# Altium footprint library Lib1.PcbLib: 32 footprints (part 2 of 2)
Each footprint in its own frame and in the unit in brackets; x right, y up, seen from the top. Pads: shape width x height; smd on the part's side, far side on the other; paste and mask are expansions set on the pad; w line width, h text height; cw(c..) or ccw(c..) is an arc to the next point about the centre after c.
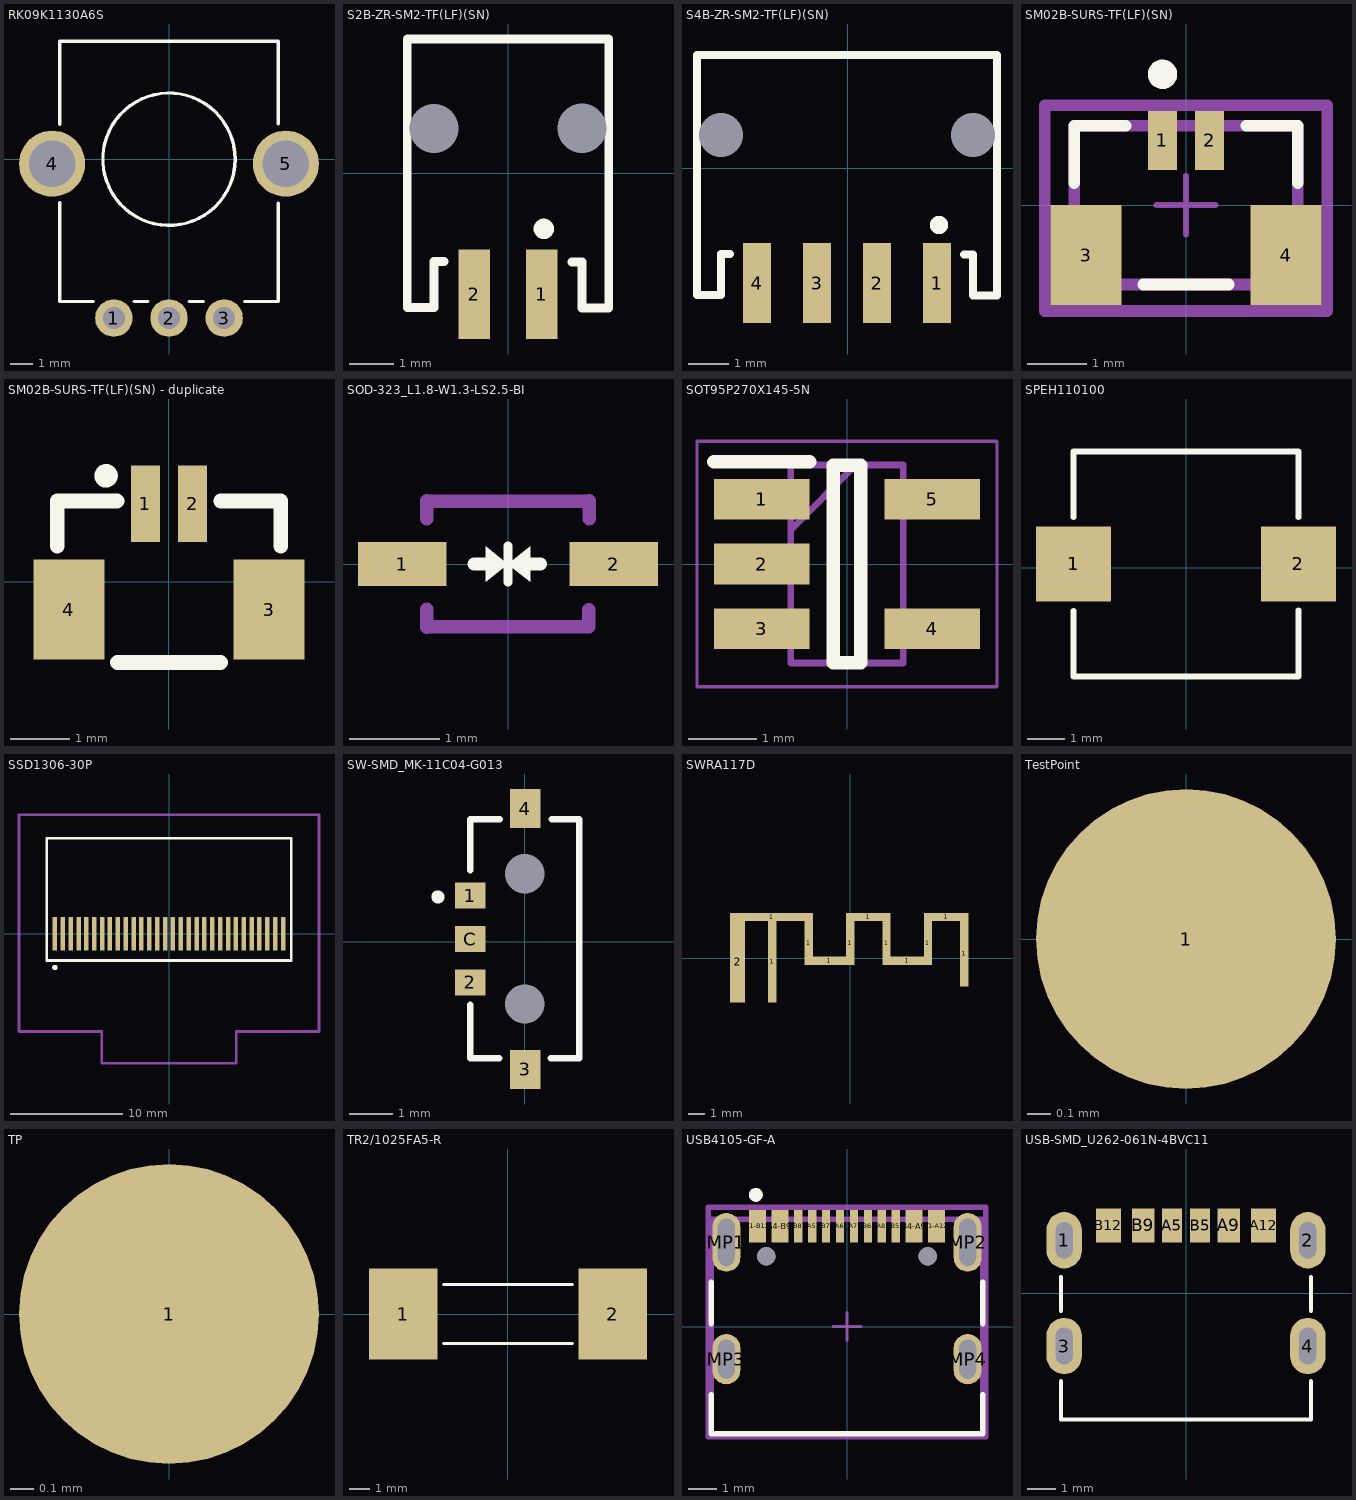
[diagram p1: the footprints below, top view; thin cyan lines are the x and y axes]

## RK09K1130A6S [mm]
pads (5):
  round 1.7 hole 1: 1(-2.5,-7.2) 2(0,-7.2) 3(2.5,-7.2)
  round 3 hole 2.1: 4(-5.3,-0.2) 5(5.3,-0.2)
Top Overlay:
  circle w0.15: c0,0 r3
  lines w0.15: -4.95,-1.975 -4.95,-6.452 -3.425,-6.45 ; -4.95,1.575 -4.95,5.35 4.95,5.35 4.95,1.6 ; -1.575,-6.45 -0.95,-6.45 ; 0.925,-6.45 1.55,-6.45 ; 3.425,-6.45 4.95,-6.452 4.95,-2
3D body "RK09K1130A6S-3D.step": height 15, standoff -3.8, extent -5.349,-7.31 5.329,5.29

## S2B-ZR-SM2-TF(LF)(SN) [mm]
pads (4):
  rect 0.7x2 smd: 1(0.75,-2.7) 2(-0.75,-2.7)
  round 0 hole 1.1 unplated: ""(-1.65,1) ""(1.65,1.008)
Top Overlay:
  lines w0.2: -1.652,-2.998 -1.652,-1.973 -1.427,-1.973 ; -1.65,-3 -2.25,-3 -2.25,3 2.25,3 ; 1.427,-1.981 1.652,-1.981 1.652,-3.006 ; 1.65,-3.008 2.25,-3.008 2.25,2.992
  lines w0.254: 0.7,-1.241 cw(c0.8,-1.241) 0.8,-1.141 cw(c0.8,-1.241) 0.9,-1.241 cw(c0.8,-1.241) 0.8,-1.341 cw(c0.8,-1.241) 0.7,-1.241
3D body "S2B-ZR-SM2-TF(LF)(SN).step": height 3.7, standoff -1.5, extent -2.25,-3.5 2.25,3

## S4B-ZR-SM2-TF(LF)(SN) [mm]
pads (6):
  rect 0.7x2 smd: 1(2.237,-2.863) 2(0.737,-2.863) 3(-0.763,-2.863) 4(-2.263,-2.863)
  round 0 hole 1.1 unplated: ""(-3.163,0.837) ""(3.137,0.837)
Top Overlay:
  lines w0.2: -2.94,-2.136 -3.165,-2.136 -3.165,-3.161 -3.163,-3.163 -3.763,-3.163 -3.763,2.837 3.737,2.837 ; 2.914,-2.153 3.139,-2.153 3.139,-3.178 ; 3.137,-3.18 3.737,-3.18 3.737,2.82
  lines w0.254: 2.187,-1.413 cw(c2.287,-1.413) 2.287,-1.313 cw(c2.287,-1.413) 2.387,-1.413 cw(c2.287,-1.413) 2.287,-1.513 cw(c2.287,-1.413) 2.187,-1.413
3D body "S4B-ZR-SM2-TF(LF)(SN).step": height 3.7, standoff -1.5, extent -3.763,-3.663 3.737,2.837

## SM02B-SURS-TF(LF)(SN) [mm]
pads (4):
  rect 0.5x1 smd paste+0 mask+0.01: 1(-0.4,1.1) 2(0.4,1.1)
  rect 1.2x1.7 smd paste+0 mask+0.01: 3(-1.7,-0.85) 4(1.7,-0.85)
Top Overlay:
  circle w0.25: c-0.4,2.225 r0.125
  lines w0.2: -1.9,0.375 -1.9,1.35 -1.025,1.35 ; -0.725,-1.35 0.725,-1.35 ; 1.025,1.35 1.9,1.35 1.9,0.375
Top Component Center:
  lines w0.1: -0.5,0 0.5,0 ; 0,-0.5 0,0.5
  lines w0.2: -2.4,-1.8 -2.4,1.7 2.4,1.7 2.4,-1.8 -2.4,-1.8
Top 3D Body:
  lines w0.2: -1.9,-1.35 -1.9,1.35 1.9,1.35 1.9,-1.35 -1.9,-1.35
3D body "Conn_JST_SM02B-SURS-TF_LF_SN_eec.STEP": height 0.25, standoff 0, extent -2.4,-1.8 2.4,1.7

## SM02B-SURS-TF(LF)(SN) - duplicate [mm]
pads (4):
  rect 0.5x1.3 smd paste+0 mask+0.051: 1(-0.4,1.325) 2(0.4,1.325)
  rect 1.2x1.7 smd paste+0 mask+0.051: 3(1.7,-0.474) 4(-1.7,-0.474)
Top Overlay:
  circle w0.2: c-1.07,1.8 r0.1
  lines w0.254: -1.9,0.607 -1.9,1.375 -0.881,1.375 ; -0.874,-1.374 0.874,-1.374 ; 0.879,1.375 1.9,1.375 1.9,0.607
Assembly Notes:
  circle w0.2: c-0.379,1.52 r0.1

## SOD-323_L1.8-W1.3-LS2.5-BI [mm]
pads (2):
  rect 0.985x0.49 smd mask+0.051: 1(-1.175,0) 2(1.175,0)
Top Overlay:
  region: 0.25,0.2 0,0 0.25,-0.2
  region: -0.25,-0.2 0,0 -0.25,0.2
  lines w0.1: 0,-0.2 0,0.2
  lines w0.15: -0.376,0 -0.204,0 ; 0.225,0 0.361,0
Mechanical 13:
  lines w0.15: -0.901,-0.701 -0.901,-0.501 ; -0.901,0.501 -0.901,0.701 ; 0.9,-0.699 0.9,-0.51 ; 0.905,0.501 0.905,0.701 ; -0.9,0.7 0.9,0.7 ; -0.9,0.7 0.9,0.7 ; -0.9,0.7 -0.9,0.7 ; 0.9,0.7 0.9,0.7 ; -0.9,-0.7 0.9,-0.7 -0.9,-0.7
3D body "GBLC08C-N.step": height 1, standoff -0.05, extent -1.3,-0.65 1.3,0.65

## SOT95P270X145-5N [mm]
pads (5):
  rect 1.4x0.6 smd mask+0.051: 1(-1.25,0.95) 2(-1.25,0) 3(-1.25,-0.95) 4(1.25,-0.95) 5(1.25,0.95)
Top Overlay:
  lines w0.2: -1.95,1.5 -0.55,1.5 ; -0.2,-1.45 -0.2,1.45 0.2,1.45 0.2,-1.45 -0.2,-1.45
Mechanical 13:
  lines w0.1: -0.825,0.5 0.125,1.45 ; -0.825,-1.45 -0.825,1.45 0.825,1.45 0.825,-1.45 -0.825,-1.45
Assembly Notes:
  lines w0.05: -2.2,-1.8 -2.2,1.8 2.2,1.8 2.2,-1.8 -2.2,-1.8
3D body "FAN5333BSX.stp": height 1.45, standoff 0, extent -1.35,-1.45 1.35,1.45

## SPEH110100 [mm] "Pushbutton"
pads (2):
  rect 2x2 smd mask+0.051: 1(-3,0.101) 2(3,0.101)
Top Overlay:
  lines w0.15: -3,1.346 -3,3.101 3,3.101 3,1.346 ; -2.999,-1.148 -2.999,-2.899 3.001,-2.899 3.001,-1.135
3D body "SPEH110101.step": height 4.97, standoff -0.03, extent -3.289,-2.879 3.243,3.118

## SSD1306-30P [mm]
pads (30):
  rect 0.4x3 smd mask+0.051: 1(-10.15,0) 2(-9.45,0) 3(-8.75,0) 4(-8.05,0) 5(-7.35,0) 6(-6.65,0) 7(-5.95,0) 8(-5.25,0) 9(-4.55,0) 10(-3.85,0) 11(-3.15,0) 12(-2.45,0) 13(-1.75,0) 14(-1.05,0) 15(-0.35,0) 16(0.35,0) 17(1.05,0) 18(1.75,0) 19(2.45,0) 20(3.15,0) 21(3.85,0) 22(4.55,0) 23(5.25,0) 24(5.95,0) 25(6.65,0) 26(7.35,0) 27(8.05,0) 28(8.75,0) 29(9.45,0) 30(10.15,0)
Top Overlay:
  lines w0.254: -10.039,-2.985 ccw(c-10.15,-3.013) -10.036,-3.003 ; -10.875,-2.379 -10.875,8.479 10.875,8.479 10.875,-2.379 -10.875,-2.379
Assembly Notes:
  lines w0.254: -13.344,-8.692 -13.344,10.571 13.344,10.571 13.344,-8.692 5.98,-8.692 5.98,-11.527 -5.98,-11.527 -5.98,-8.692 -13.344,-8.692
3D body: height 0, standoff 0, extent -10.401,-1.551 10.401,1.551
3D body "SSD1306_OLED.step": height 3, standoff 0.6, extent -13.257,-10.431 13.243,10.568

## SW-SMD_MK-11C04-G013 [mm]
pads (7):
  rect 0.7x0.6 smd mask+0.051: 1(-1.252,1.064) 2(-1.252,-0.936) C(-1.25,0.064)
  rect 0.7x0.9 smd mask+0.051: 3(0.01,-2.936) 4(0.01,3.064)
  round 0 hole 0.9 unplated: ""(0,-1.434) ""(0,1.566)
Top Overlay:
  circle w0.254: c-1.997,1.031 r0.023
  lines w0.15: -1.256,-1.448 -1.256,-2.679 -0.59,-2.679 ; -1.25,1.65 -1.25,2.816 ; -1.245,2.816 -0.579,2.816 ; 0.599,-2.677 1.251,-2.677 1.251,2.823 0.622,2.823
3D body "MK-11C04-G013.step": height 0.7, standoff -0.5, extent -1.462,-3.168 2.538,3.332

## SWRA117D [mm]
pads (12):
  rect 5x0.5 smd paste-1 mask+0: 1(-4.742,2.487)
  rect 0.5x4.9 smd paste-1 mask+0: 1(-4.692,-0.212)
  rect 0.5x2.64 smd paste-1 mask+0: 1(-2.492,0.919) 1(0.006,0.918) 1(2.206,0.918) 1(4.704,0.918)
  rect 2x0.5 smd paste-1 mask+0: 1(-1.243,-0.151) 1(3.455,-0.152)
  rect 2.7x0.5 smd paste-1 mask+0: 1(1.106,2.487) 1(5.804,2.487)
  rect 0.5x3.94 smd paste-1 mask+0: 1(6.904,0.268)
  rect 0.9x4.9 smd paste-1 mask+0: 2(-6.792,-0.212)

## TestPoint [mm]
pads (1):
  round 1.27 smd mask+0.051: 1(0,0)

## TP [mm]
pads (1):
  round 1.27 smd paste-2539.97 mask+0.051: 1(0,0)

## TR2/1025FA5-R [mm]
pads (2):
  rect 3.3x4.38 smd: 1(-5.045,0) 2(5.045,0)
Top Overlay:
  lines w0.15: -3.1,-1.42 3.1,-1.42 ; -3.1,1.42 3.1,1.42

## USB4105-GF-A [mm]
pads (18):
  rect 0.6x1.15 smd paste+0: A1-B12(-3.2,3.59) A4-B9(-2.4,3.59) B1-A12(3.2,3.59) B4-A9(2.4,3.59)
  rect 0.3x1.15 smd paste+0: A5(-1.25,3.59) A6(-0.25,3.59) A7(0.25,3.59) A8(1.25,3.59) B5(1.75,3.59) B6(0.75,3.59) B7(-0.75,3.59) B8(-1.75,3.59)
  rrect100% 1x2.1 hole 1.7 slot 0.6 at 0 deg paste-2539.97 mask+0: MP1(-4.32,3.015) MP2(4.32,3.015)
  rrect100% 1x1.8 hole 1.4 slot 0.6 at 0 deg paste-2539.97 mask+0: MP3(-4.32,-1.165) MP4(4.32,-1.165)
  round 0.65 hole 0.65 unplated paste-2539.97 mask+0: ""(-2.89,2.515) ""(2.89,2.515)
Top Overlay:
  circle w0.25: c-3.265,4.715 r0.125
  lines w0.2: -4.865,-2.44 -4.865,-3.84 4.865,-3.84 4.865,-2.44 ; -4.865,0.11 -4.865,1.59 ; 4.865,0.11 4.865,1.59
Top 3D Body:
  lines w0.2: -4.965,-3.94 4.965,-3.94 4.965,4.265 -4.965,4.265 -4.965,-3.94 ; -4.865,-3.84 4.865,-3.84 4.865,3.84 -4.865,3.84 -4.865,-3.84
Bottom 3D Body:
  lines w0.2: -4.965,-3.94 4.965,-3.94 4.965,4.265 -4.965,4.265 -4.965,-3.94
  text ".Designator" at 0,0.35 h1
Top Designator:
  lines w0.1: -0.5,0 0.5,0 ; 0,-0.5 0,0.5
3D body "Conn_GCT_USB4105-GF-A_eec.STEP": height 0.25, standoff 0, extent -4.965,-3.94 4.965,4.265

## USB-SMD_U262-061N-4BVC11 [mm]
pads (10):
  oval 1.25x2 hole 0.6 slot 1.3 at 90 deg: 1(-4.32,1.875) 2(4.32,1.875) 3(-4.32,-1.875) 4(4.32,-1.875)
  rect 0.7x1.2 smd: A5(-0.5,2.403) B5(0.5,2.403)
  rect 0.8x1.2 smd: A9(1.52,2.403) B9(-1.52,2.403)
  rect 0.9x1.2 smd: A12(2.75,2.403) B12(-2.75,2.403)
Top Overlay:
  lines w0.15: -4.433,-3.125 -4.433,-4.482 4.432,-4.482 4.432,-3.125 ; -4.433,-0.625 -4.433,0.575 ; 4.432,-0.625 4.432,0.575
3D body "217175-0001.stp": height 2.58, standoff -2.58, extent -4.463,-4.388 4.477,2.512